# Altium footprint library WRIS-RSKS.PcbLib: 9 footprints
Each footprint in its own frame and in the unit in brackets; x right, y up, seen from the top. Pads: shape width x height; smd on the part's side, far side on the other; paste and mask are expansions set on the pad; w line width, h text height; cw(c..) or ccw(c..) is an arc to the next point about the centre after c.
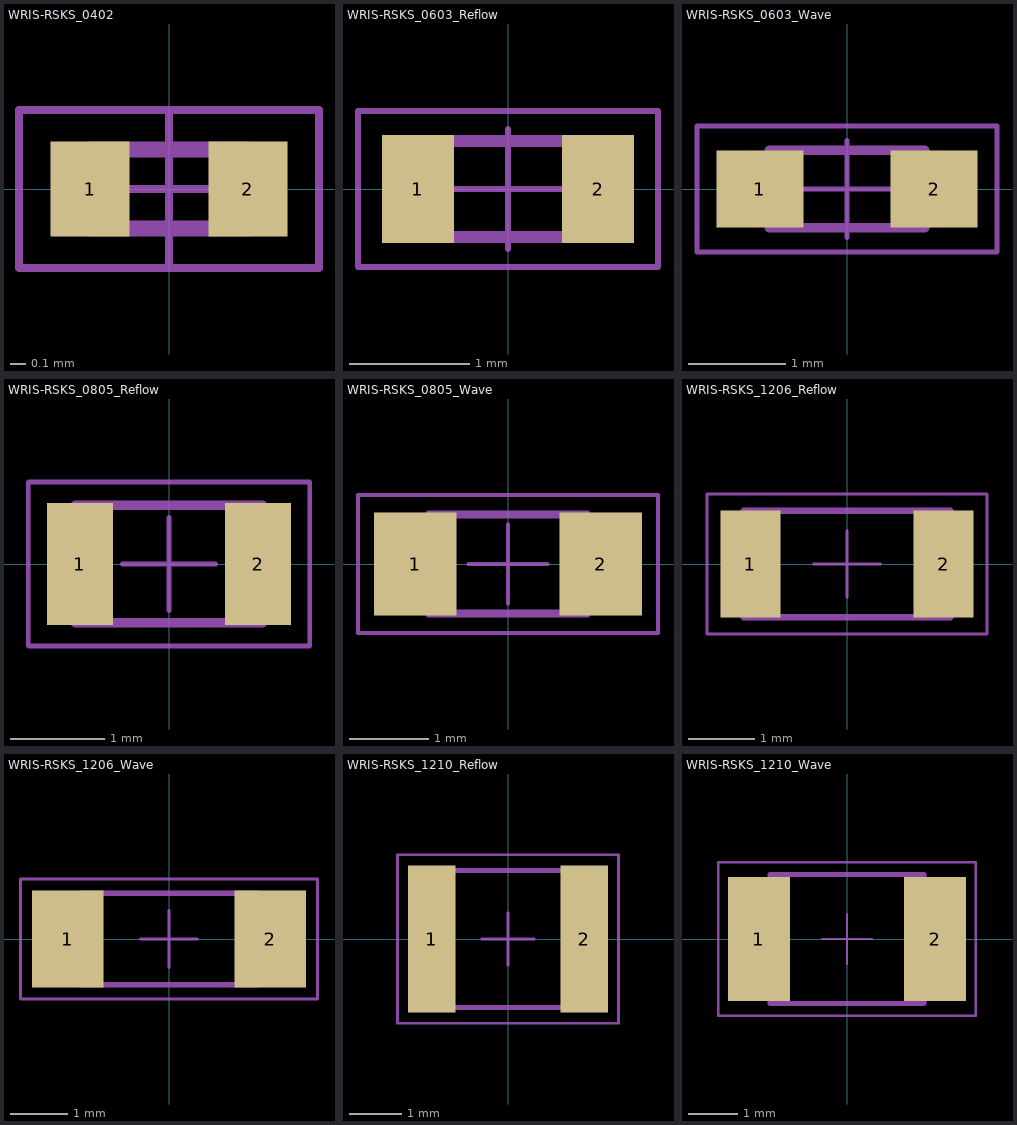
[diagram p0: the footprints below, top view; thin cyan lines are the x and y axes]

## WRIS-RSKS_0402 [mm] "Fixed Thick Film, body 1.00 x 0.50 mm"
height 0.35
pads (2):
  rect 0.5x0.6 smd: 1(-0.5,0) 2(0.5,0)
Top Designator:
  text ".Designator" at -2.499,-0.167 h0.5
Top Component Outline:
  lines w0.1: -0.5,-0.25 -0.5,0.25 0.5,0.25 0.5,-0.25 -0.5,-0.25
Top Courtyard:
  lines w0.05: -0.95,-0.5 -0.95,0.5 0.95,0.5 0.95,-0.5 -0.95,-0.5
Top Component Center:
  lines w0.05: -0.5,0 0.5,0 ; 0,-0.5 0,0.5
3D body "WRIS-RSKS_0402.stp": height 0.35, standoff 0, extent -0.5,-0.25 0.5,0.25

## WRIS-RSKS_0603_Reflow [mm] "Fixed Thick Film, body 1.60 x 0.80 mm"
height 0.45
pads (2):
  rect 0.6x0.9 smd: 1(-0.75,0) 2(0.75,0)
Top Designator:
  text ".Designator" at -2.499,-0.167 h0.5
Top Component Outline:
  lines w0.1: -0.8,-0.4 -0.8,0.4 0.8,0.4 0.8,-0.4 -0.8,-0.4
Top Courtyard:
  lines w0.05: -1.25,-0.65 -1.25,0.65 1.25,0.65 1.25,-0.65 -1.25,-0.65
Top Component Center:
  lines w0.05: -0.5,0 0.5,0 ; 0,-0.5 0,0.5
3D body "WRIS-RSKS_0603.stp": height 0.45, standoff 0, extent -0.8,-0.4 0.8,0.4

## WRIS-RSKS_0603_Wave [mm] "Fixed Thick Film, body 1.60 x 0.80 mm"
height 0.45
pads (2):
  rect 0.9x0.8 smd: 1(-0.9,0) 2(0.9,0)
Top Designator:
  text ".Designator" at -2.499,-0.167 h0.5
Top Component Outline:
  lines w0.1: -0.8,-0.4 -0.8,0.4 0.8,0.4 0.8,-0.4 -0.8,-0.4
Top Courtyard:
  lines w0.05: -1.55,-0.65 -1.55,0.65 1.55,0.65 1.55,-0.65 -1.55,-0.65
Top Component Center:
  lines w0.05: -0.5,0 0.5,0 ; 0,-0.5 0,0.5
3D body "WRIS-RSKS_0603.stp": height 0.45, standoff 0, extent -0.8,-0.4 0.8,0.4

## WRIS-RSKS_0805_Reflow [mm] "Fixed Thick Film, body 2.00 x 1.25 mm"
height 0.5
pads (2):
  rect 0.7x1.3 smd: 1(-0.95,0) 2(0.95,0)
Top Designator:
  text ".Designator" at -2.499,-0.167 h0.5
Top Component Outline:
  lines w0.1: -1,-0.625 -1,0.625 1,0.625 1,-0.625 -1,-0.625
Top Courtyard:
  lines w0.05: -1.5,-0.875 -1.5,0.875 1.5,0.875 1.5,-0.875 -1.5,-0.875
Top Component Center:
  lines w0.05: -0.5,0 0.5,0 ; 0,-0.5 0,0.5
3D body "WRIS-RSKS_0805.stp": height 0.53, standoff 0.03, extent -1,-0.625 1,0.625

## WRIS-RSKS_0805_Wave [mm] "Fixed Thick Film, body 2.00 x 1.25 mm"
height 0.5
pads (2):
  rect 1.05x1.3 smd: 1(-1.175,0) 2(1.175,0)
Top Designator:
  text ".Designator" at -2.499,-0.167 h0.5
Top Component Outline:
  lines w0.1: -1,-0.625 1,-0.625 1,0.625 -1,0.625 -1,-0.625
Top Courtyard:
  lines w0.05: -1.9,-0.875 1.9,-0.875 1.9,0.875 -1.9,0.875 -1.9,-0.875
Top Component Center:
  lines w0.05: -0.5,0 0.5,0 ; 0,-0.5 0,0.5
3D body "WRIS-RSKS_0805.stp": height 0.53, standoff 0.03, extent -1,-0.625 1,0.625

## WRIS-RSKS_1206_Reflow [mm] "Fixed Thick Film, body 3.10 x 1.60 mm"
height 0.6
pads (2):
  rect 0.9x1.6 smd: 1(-1.45,0) 2(1.45,0)
Top Designator:
  text ".Designator" at -3.499,-0.233 h0.7
Top Component Outline:
  lines w0.1: -1.55,-0.8 -1.55,0.8 1.55,0.8 1.55,-0.8 -1.55,-0.8
Top Courtyard:
  lines w0.05: -2.1,-1.05 -2.1,1.05 2.1,1.05 2.1,-1.05 -2.1,-1.05
Top Component Center:
  lines w0.05: -0.5,0 0.5,0 ; 0,-0.5 0,0.5
3D body "WRIS-RSKS_1206.stp": height 0.6, standoff 0, extent -1.55,-0.8 1.55,0.8

## WRIS-RSKS_1206_Wave [mm] "Fixed Thick Film, body 3.10 x 1.60 mm"
height 0.6
pads (2):
  rect 1.25x1.7 smd: 1(-1.775,0) 2(1.775,0)
Top Designator:
  text ".Designator" at -3.499,-0.233 h0.7
Top Component Outline:
  lines w0.1: -1.55,-0.8 -1.55,0.8 1.55,0.8 1.55,-0.8 -1.55,-0.8
Top Courtyard:
  lines w0.05: -2.6,-1.05 -2.6,1.05 2.6,1.05 2.6,-1.05 -2.6,-1.05
Top Component Center:
  lines w0.05: -0.5,0 0.5,0 ; 0,-0.5 0,0.5
3D body "WRIS-RSKS_1206.stp": height 0.6, standoff 0, extent -1.55,-0.8 1.55,0.8

## WRIS-RSKS_1210_Reflow [mm] "Fixed Thick Film, body 3.10 x 2.60 mm"
height 0.55
pads (2):
  rect 0.9x2.8 smd: 1(-1.45,0) 2(1.45,0)
Top Designator:
  text ".Designator" at -3.499,-0.233 h0.7
Top Component Outline:
  lines w0.1: -1.55,-1.3 -1.55,1.3 1.55,1.3 1.55,-1.3 -1.55,-1.3
Top Courtyard:
  lines w0.05: -2.1,-1.6 -2.1,1.6 2.1,1.6 2.1,-1.6 -2.1,-1.6
Top Component Center:
  lines w0.05: -0.5,0 0.5,0 ; 0,-0.5 0,0.5
3D body "WRIS-RSKS_1210.stp": height 0.57, standoff 0.02, extent -1.55,-1.3 1.55,1.3

## WRIS-RSKS_1210_Wave [mm] "Fixed Thick Film, body 3.10 x 2.60 mm"
height 0.55
pads (2):
  rect 1.25x2.5 smd: 1(-1.775,0) 2(1.775,0)
Top Designator:
  text ".Designator" at -3.499,-0.233 h0.7
Top Component Outline:
  lines w0.1: -1.55,-1.3 -1.55,1.3 1.55,1.3 1.55,-1.3 -1.55,-1.3
Top Courtyard:
  lines w0.05: -2.6,-1.55 -2.6,1.55 2.6,1.55 2.6,-1.55 -2.6,-1.55
Top Component Center:
  lines w0.05: -0.5,0 0.5,0 ; 0,-0.5 0,0.5
3D body "WRIS-RSKS_1210.stp": height 0.57, standoff 0.02, extent -1.55,-1.3 1.55,1.3